# Altium schematic symbol library 0680L4000-05.SchLib: 1 symbol
Pins are listed as number, name and electrical type; pins without a type are passive.

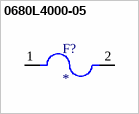
[diagram p0: symbol 0680L4000-05]

## 0680L4000-05
designator F?
Surface mount bricks | Silver Plated | 2410 case size | Slow Blow | 4A | Tape and Reel (5000 pcs.); MP: 0680L4000-05; MF: Bel Fuse; SnapEDA_Link: https://www.snapeda.com/parts/0680L4000-05/Bel+Fuse/view-part/?ref=snap; Purchase-URL: https://pricing.snapeda.com/search/part/0680L4000-05/?ref=eda; Availability: In Stock; Value: *; Price: None; Package: SMD-2 Bel Fuse Inc.; Check_prices: https://www.snapeda.com/parts/0680L4000-05/Bel+Fuse/view-part/?ref=eda
footprint FUSC6125X279N
pins: 1, 2